# Altium integrated library flash.IntLib: 2 symbols
Pins are listed as number, name and electrical type; pins without a type are passive.

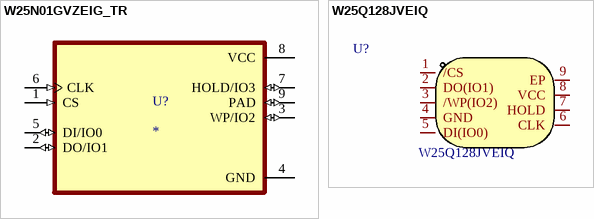
[diagram p0: symbols W25N01GVZEIG_TR to W25Q128JVEIQ]

## W25N01GVZEIG_TR
designator U?
MF: {'manufacturer': u'Winbond Electronics'}; MP: W25N01GVZEIG TR; Package: None; Price: None; Value: *; Availability: Unavailable
footprint SON127P800X600X80-9N
pins: 1 CS (in), 2 DO/IO1 (io), 3 WP/IO2 (io), 4 GND (power), 5 DI/IO0 (io), 6 CLK (in), 7 HOLD/IO3 (io), 8 VCC (power), 9 PAD (io)

## W25Q128JVEIQ
designator U?
Manufacturer: WINBOND(华邦); Add into BOM: yes; Symbol: W25Q128JVEIQ; Device: W25Q128JVEIQ; LCSC Part Name: W25Q128JVEIQ; Supplier Part: C401662; Manufacturer Part: W25Q128JVEIQ; Supplier Footprint: WSON-8-EP(6x8); JLCPCB Part Class: Extended Part; Datasheet: https://atta.szlcsc.com/upload/public/pdf/source/20190705/C401662_06B6D416F67ED315879B366F63A3F7C9.pdf; Supplier: LCSC; Convert to PCB: yes; Name: W25Q128JVEIQ
footprint SON127P800X600X80-9N
pins: 1 /CS, 2 DO(IO1), 3 /WP(IO2), 4 GND, 5 DI(IO0), 6 CLK, 7 HOLD, 8 VCC, 9 EP